# EAGLE library part CLRC663 (library CLRC633)
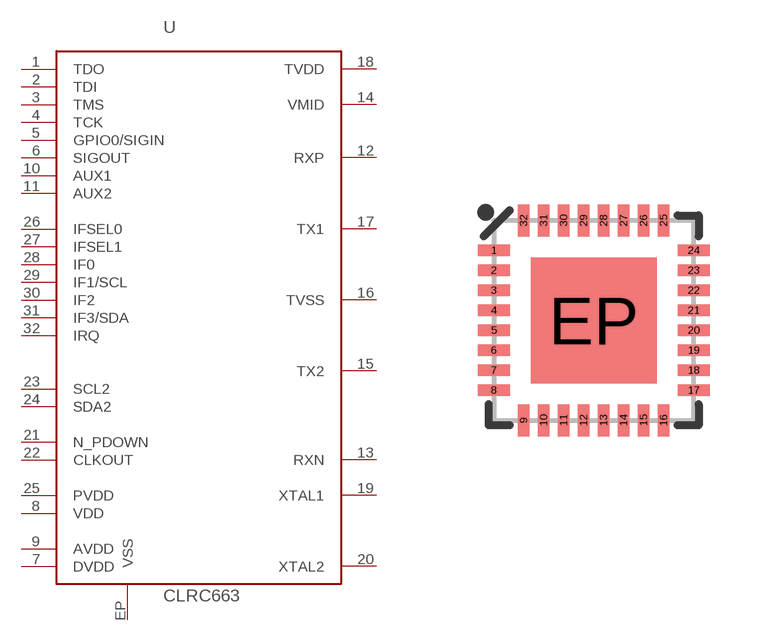
[diagram p0: symbol with the pads of QFN32; footprint QFN32]

Designator prefix -

## CLRC663  [QFN32]
1  TDO
2  TDI
3  TMS
4  TCK
5  GPIO0/SIGIN
6  SIGOUT
7  DVDD
8  VDD
9  AVDD
10  AUX1
11  AUX2
12  RXP
13  RXN
14  VMID
15  TX2
16  TVSS
17  TX1
18  TVDD
19  XTAL1
20  XTAL2
21  N_PDOWN
22  CLKOUT
23  SCL2
24  SDA2
25  PVDD
26  IFSEL0
27  IFSEL1
28  IF0
29  IF1/SCL
30  IF2
31  IF3/SDA
32  IRQ
EP  VSS

## Footprint QFN32 (pad centres in mm)
32-pin QFN package
smd 0.8 x 0.285: 1 -2.5,1.75; 2 -2.5,1.25; 3 -2.5,0.75; 4 -2.5,0.25; 5 -2.5,-0.25; 6 -2.5,-0.75; 7 -2.5,-1.25; 8 -2.5,-1.75; 17 2.5,-1.75; 18 2.5,-1.25; 19 2.5,-0.75; 20 2.5,-0.25; 21 2.5,0.25; 22 2.5,0.75; 23 2.5,1.25; 24 2.5,1.75
smd 0.285 x 0.8: 9 -1.75,-2.5; 10 -1.25,-2.5; 11 -0.75,-2.5; 12 -0.25,-2.5; 13 0.25,-2.5; 14 0.75,-2.5; 15 1.25,-2.5; 16 1.75,-2.5; 25 1.75,2.5; 26 1.25,2.5; 27 0.75,2.5; 28 0.25,2.5; 29 -0.25,2.5; 30 -0.75,2.5; 31 -1.25,2.5; 32 -1.75,2.5
smd 3.15 x 3.15: EP 0,0